# Altium schematic symbol library Schlib1.SchLib: 1 symbol
Pins are listed as number, name and electrical type; pins without a type are passive.

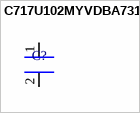
[diagram p0: symbol C717U102MYVDBA7317]

## C717U102MYVDBA7317
designator C?, comment 1nf 400V AC 7.5mm Lead  (value not drawn)
Suppression Cap, 1000Pf, Class X1/ Y2 Rohs Compliant: Yes |Kemet C717U102MYVDBA7317; Manufacturer: KEMET; Supplier 1: Mouser; Manufacturer Part Number: C717U102MYVDBA7317; RoHS: Yes; Category: Ceramic Capacitors; Stock 1: 1838; Pricing 1: 1=0,72, 10=0,387, 50=0,387, 100=0,25, 1000=0,223, 10000=0,18 (USD); RoHS Compliant: Yes; Supplier Part Number 1: 80-C717U102MYVDB7317; ComponentLink1Description: Datasheet; ComponentLink1URL: https://content.kemet.com/datasheets/KEM_C1103_KJY.pdf
footprint PCBComponent_1
pins: 1, 2